# Altium schematic symbol library RJHSE-5080.SchLib: 1 symbol
Pins are listed as number, name and electrical type; pins without a type are passive.

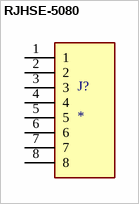
[diagram p0: symbol RJHSE-5080]

## RJHSE-5080
designator J?
MF: Amphenol ICC; Package: None; Price: None; Value: *; MP: RJHSE-5080; Availability: Unavailable
footprint AMPHENOL_RJHSE-5080
pins: 1, 2, 3, 4, 5, 6, 7, 8